# EAGLE library part W5500 (library tshome-parts)
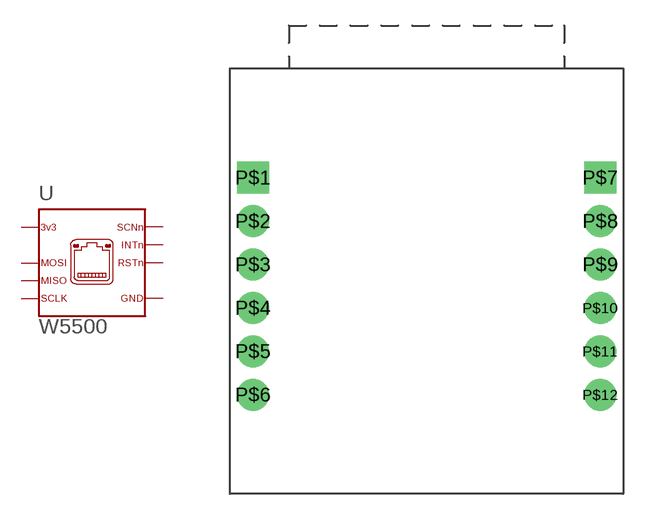
[diagram p0: symbol with the pads of W5500-MOD; footprint W5500-MOD]

Designator prefix -

## W5500  [W5500-MOD]
P$1  GND  pas
P$2  GND  pas
P$3  MOSI  pas
P$4  SCLK  pas
P$5  SS  pas
P$6  INT  pas
P$7  GND  pas
P$8  VCC  pas
P$9  VCC  pas
P$11  RST  pas
P$12  MISO  pas

## Footprint W5500-MOD (pad centres in mm)
drill 1.016 pad 1.88 square: P$1 -10.16,6.35; P$7 10.16,6.35
drill 1.016 pad 1.88: P$2 -10.16,3.81; P$3 -10.16,1.27; P$4 -10.16,-1.27; P$5 -10.16,-3.81; P$6 -10.16,-6.35; P$8 10.16,3.81; P$9 10.16,1.27; P$10 10.16,-1.27; P$11 10.16,-3.81; P$12 10.16,-6.35